# Altium footprint library special.PcbLib: 20 footprints (part 1 of 2)
Each footprint in its own frame and in the unit in brackets; x right, y up, seen from the top. Pads: shape width x height; smd on the part's side, far side on the other; paste and mask are expansions set on the pad; w line width, h text height; cw(c..) or ccw(c..) is an arc to the next point about the centre after c.
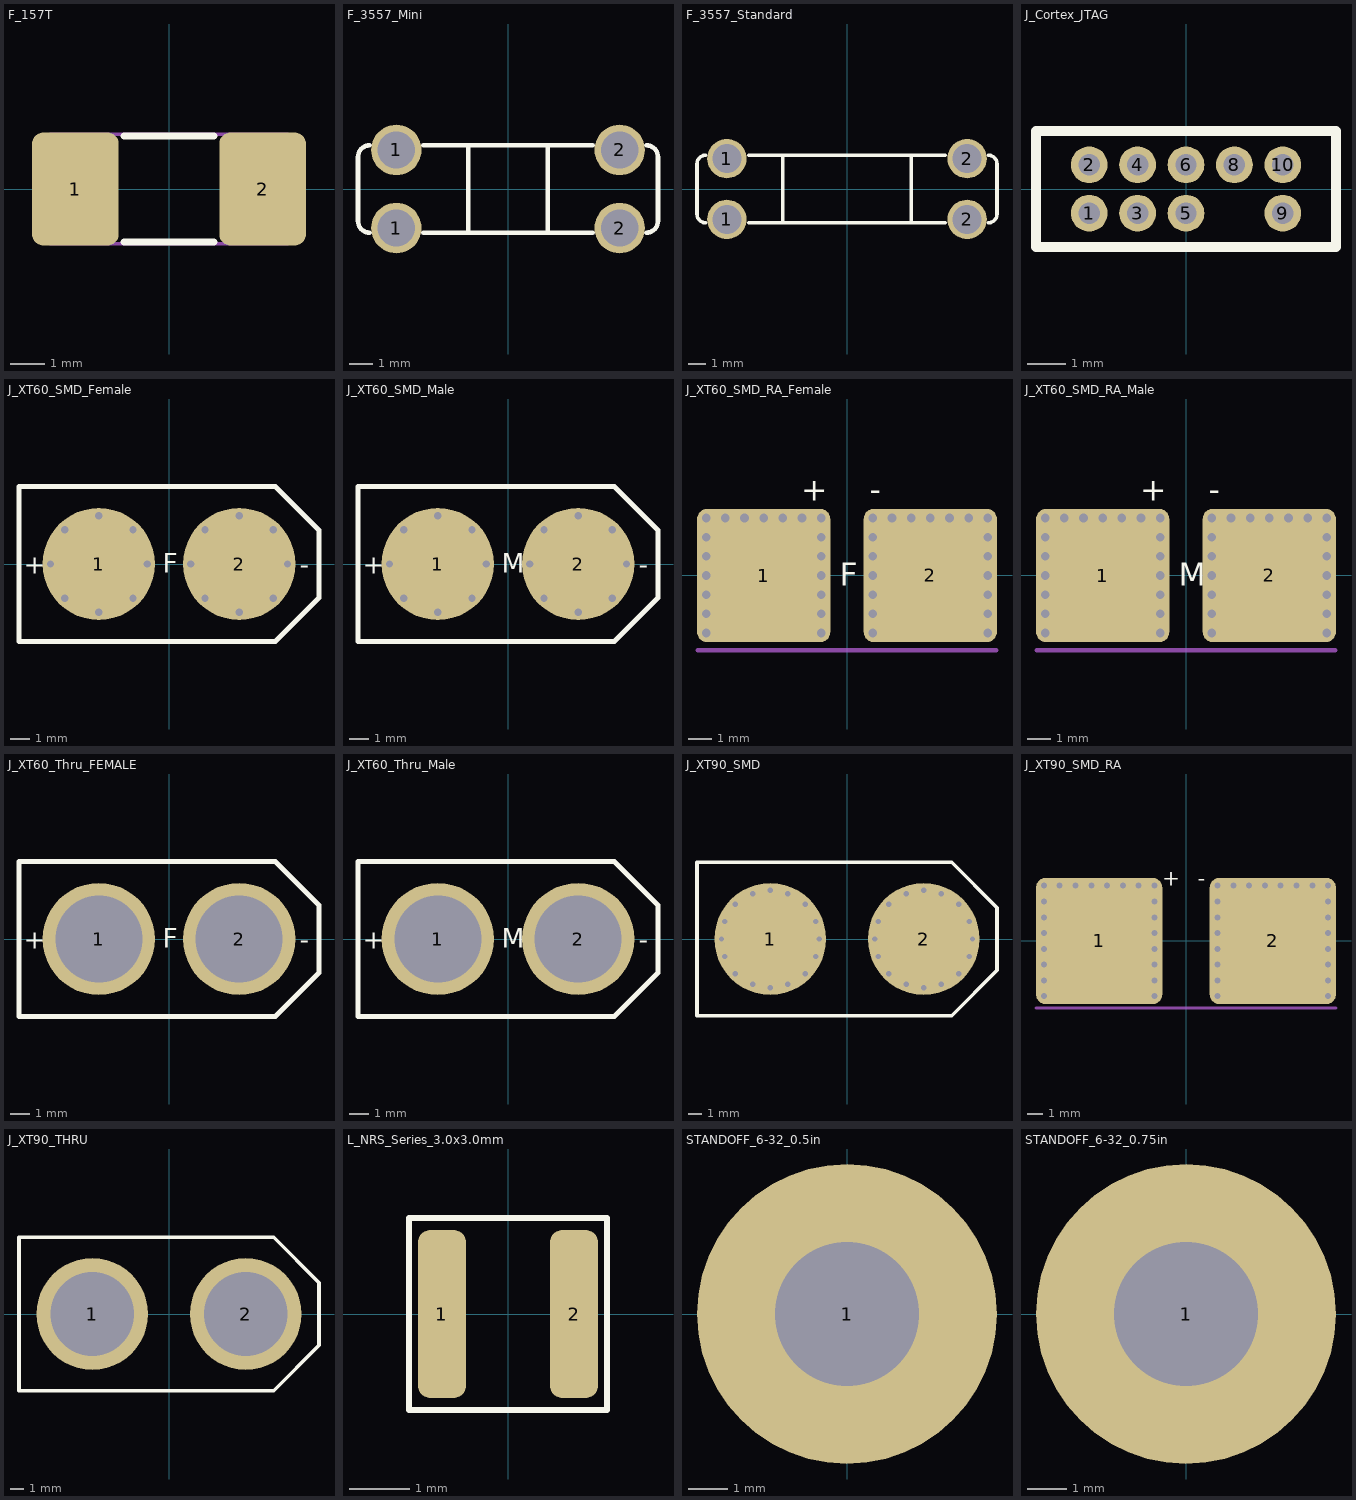
[diagram p0: the footprints below, top view; thin cyan lines are the x and y axes]

## F_157T [mm] "Littelfuse 157T"
pads (2):
  rrect25% 2.5x3.25 smd: 1(-2.7,0) 2(2.7,0)
Top Overlay:
  lines w0.2: -1.3,-1.525 1.3,-1.525 ; -1.3,1.525 1.3,1.525
Mechanical 13:
  lines w0.1: -3.43,-1.575 -3.43,1.575 3.43,1.575 3.43,-1.575 -3.43,-1.575
3D body: height 2.65, standoff 0, extent -1.47,-1.575 1.47,1.575
3D body: height 2.65, standoff 0, extent -3.43,-1.575 -1.47,1.575
3D body: height 2.65, standoff 0, extent 1.47,-1.575 3.43,1.575

## F_3557_Mini [mm] "Keystone FUSE CLIP BLADE 500V 30A PCB, Mini ATO"
pads (4):
  round 2.2 hole 1.62: 1(-4.865,-1.7) 1(-4.865,1.7) 2(4.865,-1.7) 2(4.865,1.7)
Top Overlay:
  lines w0.2: -6.035,-1.9 cw(c-6.035,-1.4) -6.535,-1.4 -6.535,1.4 cw(c-6.035,1.4) -6.035,1.9 ; -3.7,-1.905 0,-1.9 3.7,-1.905 ; -3.7,1.905 0,1.9 3.7,1.905 ; -1.735,-1.9 -1.735,1.9 ; 1.735,-1.9 1.735,1.9 ; 6.035,-1.9 ccw(c6.035,-1.4) 6.535,-1.4 6.535,1.4 ccw(c6.035,1.4) 6.035,1.9
3D body "User Library-0297025.step": height -0.47, standoff -17.4, extent -5.45,-1.905 5.45,1.905
3D body "keystone-PN3557.STEP": height 6.36, standoff -3.8, extent -6.435,-1.905 -1.736,1.905
3D body "keystone-PN3557.STEP": height 6.36, standoff -3.8, extent 1.736,-1.905 6.435,1.905

## F_3557_Standard [mm] "Keystone FUSE CLIP BLADE 500V 30A PCB, Standard Size"
pads (4):
  round 2.2 hole 1.62: 1(-6.73,-1.7) 1(-6.73,1.7) 2(6.73,-1.7) 2(6.73,1.7)
Top Overlay:
  lines w0.2: -7.9,-1.9 cw(c-7.9,-1.4) -8.4,-1.4 -8.4,1.4 cw(c-7.9,1.4) -7.9,1.9 ; -5.5,-1.9 0,-1.9 5.5,-1.9 ; -5.5,1.9 0,1.9 5.5,1.9 ; -3.6,-1.9 -3.6,1.9 ; 3.6,-1.9 3.6,1.9 ; 7.9,-1.9 ccw(c7.9,-1.4) 8.4,-1.4 8.4,1.4 ccw(c7.9,1.4) 7.9,1.9
3D body "User Library-blade fuse - 1 to 40 a - 32 v.step": height -0.49, standoff -19.29, extent -9.525,-2.525 9.525,2.555
3D body "keystone-PN3557.STEP": height 6.36, standoff -3.8, extent 3.601,-1.905 8.3,1.905
3D body "keystone-PN3557.STEP": height 6.36, standoff -3.8, extent -8.3,-1.905 -3.601,1.905

## J_Cortex_JTAG [mil] "JTAG Header for ARM Cortex MCUs"
pads (9):
  round 38 hole 22: 1(-100,-25) 2(-100,25) 3(-50,-25) 4(-50,25) 5(0,-25) 6(0,25) 8(50,25) 9(100,-25) 10(100,25)
Top Overlay:
  lines w10: -155,-60 155,-60 155,60 -155,60 -155,-60
3D body "FTSH-105-01-X-D-K.step": height 230.5, standoff -84.5, extent -127,-86 123,89

## J_XT60_SMD_Female [mm]
pads (2):
  round 5.8 smd: 1(-3.625,0) 2(3.625,0)
via 6.125,0 diameter 0.762 hole 0.381
via 3.625,2.5 diameter 0.762 hole 0.381
via 1.125,0 diameter 0.762 hole 0.381
via 3.625,-2.5 diameter 0.762 hole 0.381
via 5.393,1.768 diameter 0.762 hole 0.381
via 1.857,1.768 diameter 0.762 hole 0.381
via 1.857,-1.768 diameter 0.762 hole 0.381
via 5.393,-1.768 diameter 0.762 hole 0.381
via -1.857,-1.768 diameter 0.762 hole 0.381
via -5.393,-1.768 diameter 0.762 hole 0.381
via -5.393,1.767 diameter 0.762 hole 0.381
via -1.857,1.767 diameter 0.762 hole 0.381
via -3.625,-2.5 diameter 0.762 hole 0.381
via -6.125,0 diameter 0.762 hole 0.381
via -3.625,2.5 diameter 0.762 hole 0.381
via -1.125,0 diameter 0.762 hole 0.381
Top Overlay:
  lines w0.254: -7.75,-4 -7.75,4 5.5,4 7.75,1.75 7.75,-1.75 5.5,-4 -7.75,-4
  text "F" at -0.325,-0.45 h1
  text "-" at 6.75,-0.5 h1
  text "+" at -7.5,-0.5 h1
3D body: height 0.25, standoff 0, extent 3.752,-0.127 3.752,-0.127
3D body: height 0.25, standoff 0, extent 3.805,0 3.805,0
3D body "User Library-XT60 female.step": height 22.21, standoff 0.01, extent -7.775,-4.075 8.125,4.075
3D body: height 0.25, standoff 0, extent -3.445,0 -3.445,0
3D body: height 0.25, standoff 0, extent -3.498,-0.127 -3.498,-0.127

## J_XT60_SMD_Male [mm]
pads (2):
  round 5.8 smd: 1(-3.625,0) 2(3.625,0)
via 5.393,-1.768 diameter 0.762 hole 0.381
via 1.857,-1.768 diameter 0.762 hole 0.381
via 1.857,1.768 diameter 0.762 hole 0.381
via 5.393,1.768 diameter 0.762 hole 0.381
via -1.857,-1.768 diameter 0.762 hole 0.381
via -5.393,-1.768 diameter 0.762 hole 0.381
via -5.393,1.768 diameter 0.762 hole 0.381
via -1.857,1.768 diameter 0.762 hole 0.381
via 3.625,-2.5 diameter 0.762 hole 0.381
via 1.125,0 diameter 0.762 hole 0.381
via 3.625,2.5 diameter 0.762 hole 0.381
via 6.125,0 diameter 0.762 hole 0.381
via -3.625,-2.5 diameter 0.762 hole 0.381
via -6.125,0 diameter 0.762 hole 0.381
via -3.625,2.5 diameter 0.762 hole 0.381
via -1.125,0 diameter 0.762 hole 0.381
Top Overlay:
  lines w0.254: -7.75,-4 5.5,-4 7.75,-1.75 7.75,1.75 5.5,4 -7.75,4 -7.75,-4
  text "M" at -0.325,-0.45 h1
  text "+" at -7.5,-0.5 h1
  text "-" at 6.75,-0.5 h1
3D body: height 0.25, standoff 0, extent 3.805,0 3.805,0
3D body: height 0.25, standoff 0, extent -3.445,0 -3.445,0
3D body: height 0.25, standoff 0, extent 3.752,-0.127 3.752,-0.127
3D body: height 0.25, standoff 0, extent -3.498,-0.127 -3.498,-0.127
3D body "User Library-XT60 male.step": height 21.21, standoff 0.01, extent -7.775,-4.075 8.125,4.075

## J_XT60_SMD_RA_Female [mm]
pads (2):
  rrect15% 5.8x5.8 smd: 1(-3.625,0) 2(3.625,0)
via 5.292,2.5 diameter 0.762 hole 0.381
via 1.958,2.5 diameter 0.762 hole 0.381
via 2.792,2.5 diameter 0.762 hole 0.381
via 4.458,2.5 diameter 0.762 hole 0.381
via 1.125,0.833 diameter 0.762 hole 0.381
via 1.125,-0.833 diameter 0.762 hole 0.381
via 1.125,-1.667 diameter 0.762 hole 0.381
via 1.125,1.667 diameter 0.762 hole 0.381
via 6.125,0.833 diameter 0.762 hole 0.381
via 6.125,-0.833 diameter 0.762 hole 0.381
via 6.125,-1.667 diameter 0.762 hole 0.381
via 6.125,1.667 diameter 0.762 hole 0.381
via -1.958,2.5 diameter 0.762 hole 0.381
via -5.292,2.5 diameter 0.762 hole 0.381
via -4.458,2.5 diameter 0.762 hole 0.381
via -2.792,2.5 diameter 0.762 hole 0.381
via -6.125,0.833 diameter 0.762 hole 0.381
via -6.125,-0.834 diameter 0.762 hole 0.381
via -6.125,-1.667 diameter 0.762 hole 0.381
via -6.125,1.666 diameter 0.762 hole 0.381
via -1.125,0.833 diameter 0.762 hole 0.381
via -1.125,-0.834 diameter 0.762 hole 0.381
via -1.125,-1.667 diameter 0.762 hole 0.381
via -1.125,1.666 diameter 0.762 hole 0.381
via 1.125,0 diameter 0.762 hole 0.381
via 3.625,2.5 diameter 0.762 hole 0.381
via 6.125,0 diameter 0.762 hole 0.381
via 1.125,2.5 diameter 0.762 hole 0.381
via 6.125,2.5 diameter 0.762 hole 0.381
via 1.125,-2.5 diameter 0.762 hole 0.381
via 6.125,-2.5 diameter 0.762 hole 0.381
via -1.125,-2.5 diameter 0.762 hole 0.381
via -6.125,-2.5 diameter 0.762 hole 0.381
via -1.125,2.5 diameter 0.762 hole 0.381
via -6.125,2.5 diameter 0.762 hole 0.381
via -1.125,0 diameter 0.762 hole 0.381
via -3.625,2.5 diameter 0.762 hole 0.381
via -6.125,0 diameter 0.762 hole 0.381
Top Overlay:
  text "+" at -2,3.25 h1
  text "-" at 1,3.25 h1
  text "F" at -0.325,-0.45 h1
Mechanical 13:
  lines w0.2: -6.5,-3.25 6.5,-3.25
3D body: height 0.25, standoff 0, extent 3.752,-0.127 3.752,-0.127
3D body: height 0.25, standoff 0, extent -3.498,-0.127 -3.498,-0.127
3D body: height 0.25, standoff 0, extent 3.805,0 3.805,0
3D body: height 0.25, standoff 0, extent 3.752,-0.127 3.752,-0.127
3D body: height 0.25, standoff 0, extent -3.498,-0.127 -3.498,-0.127
3D body: height 0.25, standoff 0, extent -3.445,0 -3.445,0
3D body "User Library-XT60 female.step": height 6.18, standoff -1.97, extent -7.95,-20.45 7.95,1.75

## J_XT60_SMD_RA_Male [mm]
pads (2):
  rrect15% 5.8x5.8 smd: 1(-3.625,0) 2(3.625,0)
via -6.125,0 diameter 0.762 hole 0.381
via -3.625,2.5 diameter 0.762 hole 0.381
via -1.125,0 diameter 0.762 hole 0.381
via -6.125,2.5 diameter 0.762 hole 0.381
via -1.125,2.5 diameter 0.762 hole 0.381
via -6.125,-2.5 diameter 0.762 hole 0.381
via -1.125,-2.5 diameter 0.762 hole 0.381
via 6.125,-2.5 diameter 0.762 hole 0.381
via 1.125,-2.5 diameter 0.762 hole 0.381
via 6.125,2.5 diameter 0.762 hole 0.381
via 1.125,2.5 diameter 0.762 hole 0.381
via 6.125,0 diameter 0.762 hole 0.381
via 3.625,2.5 diameter 0.762 hole 0.381
via 1.125,0 diameter 0.762 hole 0.381
via -1.958,2.5 diameter 0.762 hole 0.381
via -5.292,2.5 diameter 0.762 hole 0.381
via -4.458,2.5 diameter 0.762 hole 0.381
via -2.792,2.5 diameter 0.762 hole 0.381
via -6.125,0.833 diameter 0.762 hole 0.381
via -6.125,-0.834 diameter 0.762 hole 0.381
via -6.125,-1.667 diameter 0.762 hole 0.381
via -6.125,1.666 diameter 0.762 hole 0.381
via -1.125,0.833 diameter 0.762 hole 0.381
via -1.125,-0.834 diameter 0.762 hole 0.381
via -1.125,-1.667 diameter 0.762 hole 0.381
via -1.125,1.666 diameter 0.762 hole 0.381
via 1.125,0.833 diameter 0.762 hole 0.381
via 1.125,-0.834 diameter 0.762 hole 0.381
via 1.125,-1.667 diameter 0.762 hole 0.381
via 1.125,1.666 diameter 0.762 hole 0.381
via 2.792,2.499 diameter 0.762 hole 0.381
via 4.458,2.499 diameter 0.762 hole 0.381
via 5.292,2.499 diameter 0.762 hole 0.381
via 1.958,2.499 diameter 0.762 hole 0.381
via 6.125,-0.834 diameter 0.762 hole 0.381
via 6.125,0.833 diameter 0.762 hole 0.381
via 6.125,1.666 diameter 0.762 hole 0.381
via 6.125,-1.667 diameter 0.762 hole 0.381
Top Overlay:
  text "M" at -0.325,-0.45 h1
  text "-" at 1,3.25 h1
  text "+" at -2,3.25 h1
Mechanical 13:
  lines w0.2: -6.5,-3.25 6.5,-3.25
3D body "User Library-XT60 male.step": height 6.18, standoff -1.97, extent -7.95,-19.45 7.95,1.75
3D body: height 0.25, standoff 0, extent -3.445,0 -3.445,0
3D body: height 0.25, standoff 0, extent -3.498,-0.127 -3.498,-0.127
3D body: height 0.25, standoff 0, extent 3.752,-0.127 3.752,-0.127
3D body: height 0.25, standoff 0, extent 3.805,0 3.805,0

## J_XT60_Thru_FEMALE [mm]
pads (2):
  round 5.8 hole 4.5: 1(-3.625,0) 2(3.625,0)
Top Overlay:
  lines w0.254: -7.75,-4 5.5,-4 7.75,-1.75 7.75,1.75 5.5,4 -7.75,4 -7.75,-4
  text "F" at -0.325,-0.45 h1
  text "+" at -7.5,-0.5 h1
  text "-" at 6.75,-0.5 h1
3D body: height 0.25, standoff 0, extent 0.127,-0.127 0.127,-0.127
3D body "User Library-XT60 female.step": height 17.21, standoff -4.99, extent -7.775,-4.075 8.125,4.075

## J_XT60_Thru_Male [mm]
pads (2):
  round 5.8 hole 4.5: 1(-3.625,0) 2(3.625,0)
Top Overlay:
  lines w0.254: -7.75,-4 5.5,-4 7.75,-1.75 7.75,1.75 5.5,4 -7.75,4 -7.75,-4
  text "+" at -7.5,-0.5 h1
  text "-" at 6.75,-0.5 h1
  text "M" at -0.325,-0.45 h1
3D body: height 0.25, standoff 0, extent 0.127,-0.127 0.127,-0.127
3D body "User Library-XT60 male.step": height 16.21, standoff -4.99, extent -7.775,-4.075 8.125,4.075

## J_XT90_SMD [mm]
pads (2):
  round 8 smd: 1(-5.5,0) 2(5.5,0)
via 8,-2.5 diameter 0.762 hole 0.381
via 6.75,-3.25 diameter 0.762 hole 0.381
via 8.75,-1.25 diameter 0.762 hole 0.381
via 5.5,-3.5 diameter 0.762 hole 0.381
via 3,-2.5 diameter 0.762 hole 0.381
via 2.25,-1.25 diameter 0.762 hole 0.381
via 4.25,-3.25 diameter 0.762 hole 0.381
via 2,0 diameter 0.762 hole 0.381
via 3,2.5 diameter 0.762 hole 0.381
via 4.25,3.25 diameter 0.762 hole 0.381
via 2.25,1.25 diameter 0.762 hole 0.381
via 6.75,3.25 diameter 0.762 hole 0.381
via 8.75,1.25 diameter 0.762 hole 0.381
via 8,2.5 diameter 0.762 hole 0.381
via 9,0 diameter 0.762 hole 0.381
via 5.5,3.5 diameter 0.762 hole 0.381
via -5.5,3.5 diameter 0.762 hole 0.381
via -2,0 diameter 0.762 hole 0.381
via -3,2.5 diameter 0.762 hole 0.381
via -2.25,1.25 diameter 0.762 hole 0.381
via -4.25,3.25 diameter 0.762 hole 0.381
via -8.75,1.25 diameter 0.762 hole 0.381
via -6.75,3.25 diameter 0.762 hole 0.381
via -8,2.5 diameter 0.762 hole 0.381
via -9,0 diameter 0.762 hole 0.381
via -6.75,-3.25 diameter 0.762 hole 0.381
via -8.75,-1.25 diameter 0.762 hole 0.381
via -8,-2.5 diameter 0.762 hole 0.381
via -5.5,-3.5 diameter 0.762 hole 0.381
via -2.25,-1.25 diameter 0.762 hole 0.381
via -4.25,-3.25 diameter 0.762 hole 0.381
via -3,-2.5 diameter 0.762 hole 0.381
Top Overlay:
  lines w0.254: -10.75,-5.5 -10.75,5.5 7.5,5.5 10.75,2.25 10.75,-2.25 7.5,-5.5 -10.75,-5.5
3D body "xt90_male_asm.stp": height 26.21, standoff 0.01, extent -10.7,-5.5 10.7,5.5

## J_XT90_SMD_RA [mm]
pads (2):
  rrect15% 8x8 smd: 1(-5.5,0) 2(5.5,0)
via 2,3.5 diameter 0.762 hole 0.381
via 3,3.5 diameter 0.762 hole 0.381
via 4,3.5 diameter 0.762 hole 0.381
via 5,3.5 diameter 0.762 hole 0.381
via 6,3.5 diameter 0.762 hole 0.381
via 7,3.5 diameter 0.762 hole 0.381
via 8,3.5 diameter 0.762 hole 0.381
via 9,3.5 diameter 0.762 hole 0.381
via 9,2.5 diameter 0.762 hole 0.381
via 9,1.5 diameter 0.762 hole 0.381
via 9,0.5 diameter 0.762 hole 0.381
via 9,-0.5 diameter 0.762 hole 0.381
via 9,-1.5 diameter 0.762 hole 0.381
via 9,-2.5 diameter 0.762 hole 0.381
via 9,-3.5 diameter 0.762 hole 0.381
via 2,2.5 diameter 0.762 hole 0.381
via 2,1.5 diameter 0.762 hole 0.381
via 2,0.5 diameter 0.762 hole 0.381
via 2,-0.5 diameter 0.762 hole 0.381
via 2,-1.5 diameter 0.762 hole 0.381
via 2,-2.5 diameter 0.762 hole 0.381
via 2,-3.5 diameter 0.762 hole 0.381
via -9,-3.5 diameter 0.762 hole 0.381
via -9,-2.5 diameter 0.762 hole 0.381
via -9,-1.5 diameter 0.762 hole 0.381
via -9,-0.5 diameter 0.762 hole 0.381
via -9,0.5 diameter 0.762 hole 0.381
via -9,1.5 diameter 0.762 hole 0.381
via -9,2.5 diameter 0.762 hole 0.381
via -2,-3.5 diameter 0.762 hole 0.381
via -2,-2.5 diameter 0.762 hole 0.381
via -2,-1.5 diameter 0.762 hole 0.381
via -2,-0.5 diameter 0.762 hole 0.381
via -2,0.5 diameter 0.762 hole 0.381
via -2,1.5 diameter 0.762 hole 0.381
via -2,2.5 diameter 0.762 hole 0.381
via -2,3.5 diameter 0.762 hole 0.381
via -3,3.5 diameter 0.762 hole 0.381
via -4,3.5 diameter 0.762 hole 0.381
via -5,3.5 diameter 0.762 hole 0.381
via -6,3.5 diameter 0.762 hole 0.381
via -7,3.5 diameter 0.762 hole 0.381
via -8,3.5 diameter 0.762 hole 0.381
via -9,3.5 diameter 0.762 hole 0.381
Top Overlay:
  text "+" at -1.5,3.5 h1
  text "-" at 0.75,3.5 h1
Mechanical 13:
  lines w0.2: -9.5,-4.25 9.5,-4.25
3D body "xt90_male_asm.stp": height 8.31, standoff -2.69, extent -10.7,-24.95 10.7,1.25

## J_XT90_THRU [mm]
pads (2):
  round 8 hole 6: 1(-5.5,0) 2(5.5,0)
Top Overlay:
  lines w0.254: -10.75,-5.5 -10.75,5.5 7.5,5.5 10.75,2.25 10.75,-2.25 7.5,-5.5 -10.75,-5.5
3D body "xt90_male_asm.stp": height 20.71, standoff -5.49, extent -10.7,-5.5 10.7,5.5

## L_NRS_Series_3.0x3.0mm [mm] "Taiyo Yuden 3.3mm NRS Series Inductor"
pads (2):
  rrect50% 0.8x2.8 smd: 1(-1.1,0) 2(1.1,0)
Top Overlay:
  lines w0.1: -1.65,-1.6 -1.65,1.6 1.65,1.6 1.65,-1.6 -1.65,-1.6
3D body "User Library-nr3015.step": height 1.46, standoff -0.03, extent -1.5,-1.5 1.5,1.5

## STANDOFF_6-32_0.5in [mil] "Standoff for 6-32 screw, 0.5 inches tall"
height 500
pads (1):
  round 300 hole 144 paste+0: 1(0,0)
3D body "91780A127_ALUM FEM THRDED HEX STANDOFF.STEP": height 500.5, standoff 0.5, extent -124.99,-144.33 125.01,144.34
3D body "91274A008_COATED ALLOY STEEL SOCKET HEAD CAP SCREW.STEP": height 138.5, standoff -374.5, extent -112.99,-112.99 113.01,113

## STANDOFF_6-32_0.75in [mil] "Standoff for 6-32 screw, 0.75 inches tall"
height 750
pads (1):
  round 300 hole 144 paste+0: 1(0,0)
3D body "91780A131_ALUM FEM THRDED HEX STANDOFF.STEP": height 750.5, standoff 0.5, extent -124.99,-144.33 125.01,144.34
3D body "91274A008_COATED ALLOY STEEL SOCKET HEAD CAP SCREW.STEP": height 138.5, standoff -374.5, extent -112.99,-112.99 113.01,113